# Altium footprint library AON6411.PcbLib: 1 footprints
Each footprint in its own frame and in the unit in brackets; x right, y up, seen from the top. Pads: shape width x height; smd on the part's side, far side on the other; paste and mask are expansions set on the pad; w line width, h text height; cw(c..) or ccw(c..) is an arc to the next point about the centre after c.
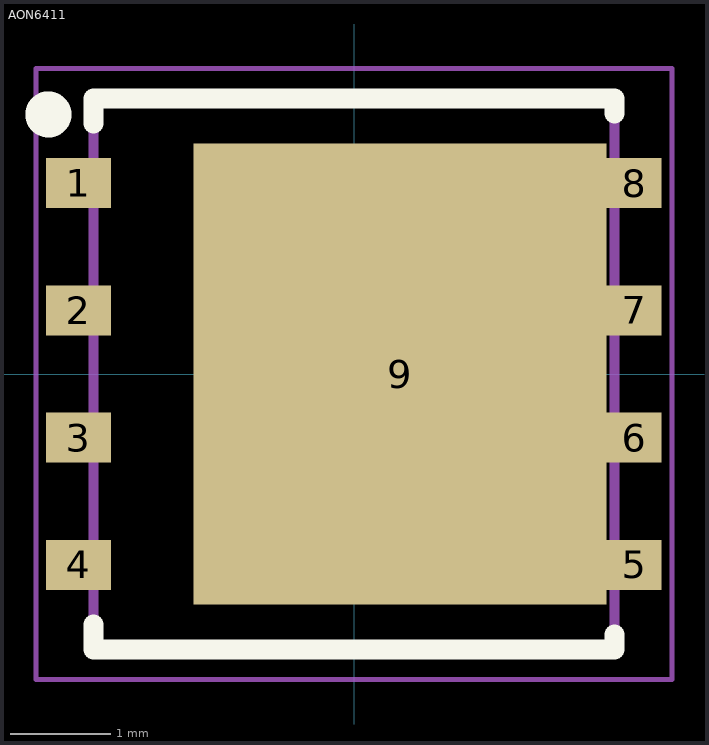
[diagram p0: the footprint, top view; thin cyan lines are the x and y axes]

## AON6411 [mm]
pads (9):
  rect 0.65x0.5 smd: 1(-2.75,1.905) 2(-2.75,0.635) 3(-2.75,-0.635) 4(-2.75,-1.905)
  rect 0.55x0.5 smd: 5(2.795,-1.905) 6(2.795,-0.635) 7(2.795,0.635) 8(2.795,1.905)
  rect 4.12x4.6 smd: 9(0.46,0)
Top Overlay:
  circle w0.3: c-3.05,2.59 r0.08
  lines w0.2: -2.6,-2.5 -2.6,-2.75 2.6,-2.75 2.6,-2.6 ; -2.6,2.5 -2.6,2.75 2.6,2.75 2.6,2.6
Top 3D Body:
  lines w0.1: -2.6,-2.75 2.6,-2.75 2.6,2.75 -2.6,2.75 -2.6,-2.75
Top Courtyard:
  lines w0.05: -3.175,-3.048 3.175,-3.048 3.175,3.048 -3.175,3.048 -3.175,-3.048
3D body "AON6411.step": height 1, standoff 0, extent -3.025,-2.75 3.025,2.75